# EAGLE library part AP63301WU-7 (library Labops_Lib_AH)
Buck Regulator, 3.8V-32V Input, 3A Low IQ Synchronous Buck Converter with Enhanced EMI
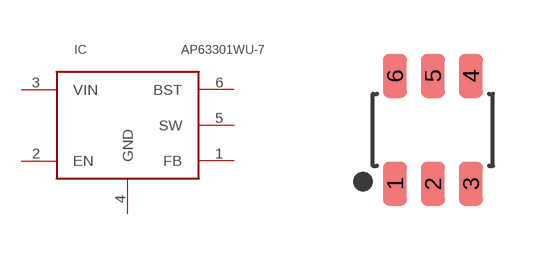
[diagram p64: symbol with the pads of SOT23-6; footprint SOT23-6]

Designator prefix IC

## AP63301WU-7 (DESCRIPTION: Buck 3.8V to 32V Input 3A Low IQ Synchronous Buck Converter with Enhanced EMI; LIB_STATUS: Verified; MFR: Diodes; MPN: AP63301WU-7; OUR_STOCK: 10; PART_VALUE: AP63301WU-7; PRICE-1: 0.25; SUPPLIER-1: Digikey)  [SOT23-6]
1  FB
2  EN
3  VIN
4  GND
5  SW
6  BST

## Footprint SOT23-6 (pad centres in mm)
smd 0.6 x 1.1: 1 -0.95,-1.35; 2 0,-1.35; 3 0.95,-1.35; 4 0.95,1.35; 5 0,1.35; 6 -0.95,1.35